# Altium schematic symbol library Prosthetic Hand Schematic Lib.SchLib: 12 symbols
Pins are listed as number, name and electrical type; pins without a type are passive.

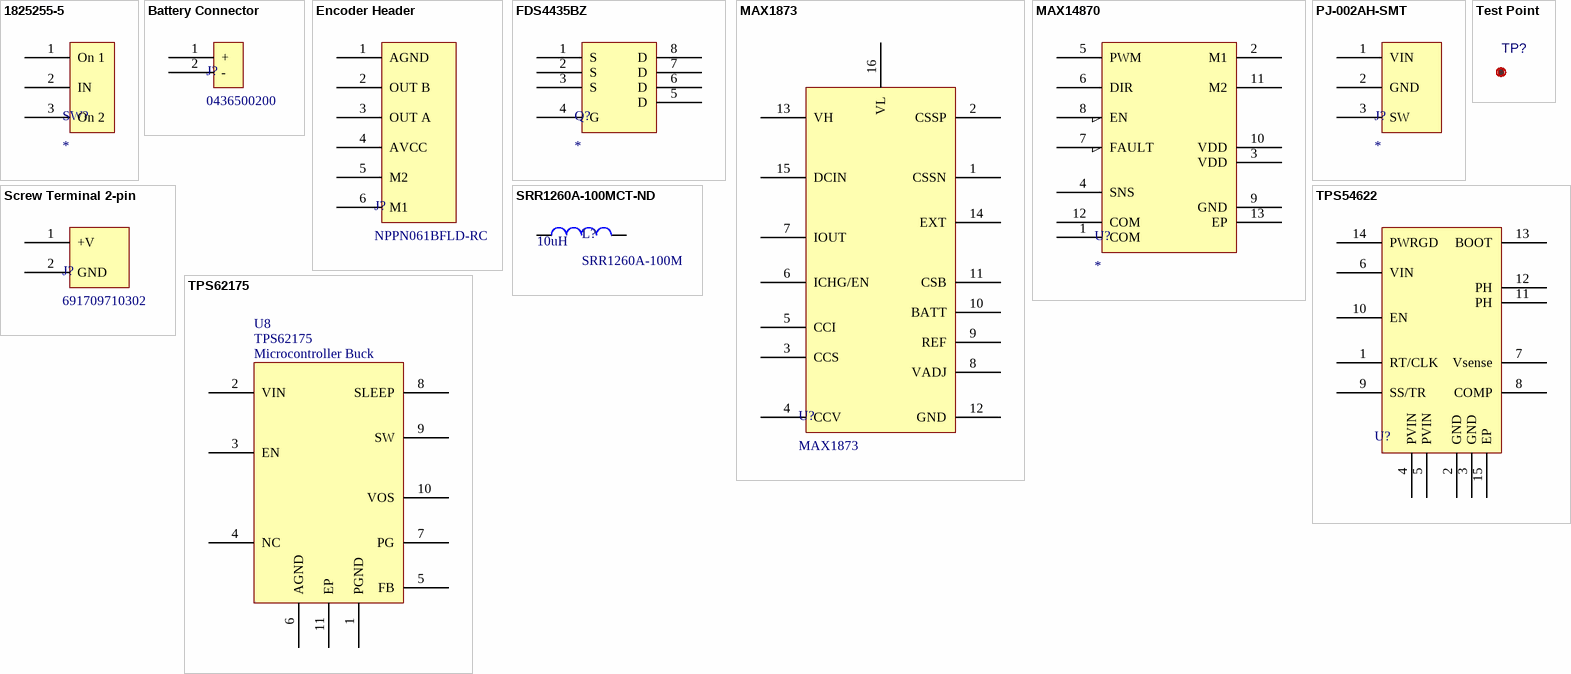
[diagram p0: symbols 1825255-5 to TPS62175]

## 1825255-5
designator SW?
On/Off/On slider switch; MFG_NAME01: TE Connectivity; MFG_PN01: 1825255-5; DIGI_PN01: 450-1569-ND
footprint On/Off/On Slider Switch (TE Connectivity 1825255-5)
pins: 1 On 1, 2 IN, 3 On 2

## Battery Connector
designator J?, comment 0436500200
Battery Connector; MFG_PN01: 43650-0200; MFG_NAME01: Molex; DIGI_PN01: WM1860-ND
footprint 43650-0200 (Molex 43650-0200 for Battery Connector)
pins: 1 +, 2 -

## Encoder Header
designator J?, comment NPPN061BFLD-RC
6-Pin 0; MFG_NAME01: Sullins Connector Solutions; DIGI_PN01: S5902-06-ND; MFG_PN01: NPPN061BFLD-RC
pins: 1 AGND, 2 OUT B, 3 OUT A, 4 AVCC, 5 M2, 6 M1

## FDS4435BZ
designator Q?
PMOS for charge controller; MFG_PN01: FDS4435BZ; MFG_NAME01: Fairchild Semiconductor; DIGI_PN01: FDS4435BZCT-ND
footprint SOIC-8 (SOIC, 8-Leads, Body 4.90x3.90mm, Pitch 1.27mm, IPC Medium Density)
pins: 1 S, 2 S, 3 S, 4 G, 5 D, 6 D, 7 D, 8 D

## MAX1873
designator U?
LiIon Battery Charger; MFG_PN01: MAX1873REEE+; MFG_NAME01: Maxim Integrated; DIGI_PN01: MAX1873REEE+-ND
footprint QSOP-16 (For MAX1873)
pins: 1 CSSN, 2 CSSP, 3 CCS, 4 CCV, 5 CCI, 6 ICHG/EN, 7 IOUT, 8 VADJ, 9 REF, 10 BATT, 11 CSB, 12 GND, 13 VH, 14 EXT, 15 DCIN, 16 VL

## MAX14870
designator U?
Maxim MAX14870 Motor Driver IC; MFG_NAME01: Maxim Integrated; MFG_PN01: MAX14870ETC+T; DIGI_PN01: MAX14870ETC+CT-ND
footprint 12L TDFN 3x3 (3x3mm Dual Flat No Lead with EP)
pins: 1 COM, 2 M1, 3 VDD, 4 SNS, 5 PWM, 6 DIR, 7 FAULT, 8 EN, 9 GND, 10 VDD, 11 M2, 12 COM, 13 EP

## PJ-002AH-SMT
designator J?
DC Barrel Power Jack; MFG_PN01: PJ-002AH-SMT-TR; DIGI_PN01: CP-002AHPJCT-ND; MFG_NAME01: CUI Inc.
footprint PJ-002AH-SMT (Conn power jack SMT 2.1mm x 5.5mm)
pins: 1 VIN, 2 GND, 3 SW

## Screw Terminal 2-pin
designator J?, comment 691709710302
Screw Terminal 2-pin; MFG_NAME01: Wurth Electronics Inc; DIGI_PN01: 1297-1108-1-ND; MFG_PN01: 691709710302
footprint 2-Pin Screw Terminal (Wurth 691709710302)
pins: 1 +V, 2 GND

## SRR1260A-100MCT-ND
designator L?, comment SRR1260A-100M  value 10uH
SRR1260A-100MCT-ND; Current Rating: 5.5A; MFG_NAME01: Bourns; MFG_PN01: SRR1260A-100M; DIGI_PN01: SRR1260A-100MCT-ND
simulation model INDUCTOR (Inductor)
signal-integrity model Inductor
footprint SRR1260 Ind (Precision Wire Wound Inductor, 2-Leads, Body 12.50x12.50mm, IPC Medium Density)
pins: 1, 2

## Test Point
designator TP?  (value not drawn)
TEST POINT PAD .035 SMT; MFG_PN01: TEST POINT PAD .035 SMT; MFG_NAME01: TEST POINT PAD .035 SMT; DNP: DNP
footprint Testpoint_70 (10 mil testpoint)
pins: 1 M80

## TPS54622
designator U?  (value not drawn)
Motor Buck Converter; MFG_PN01: TPS54622RHLR; MFG_NAME01: Texas Instruments; DIGI_PN01: 296-29204-1-ND
footprint S-PVQFN-N14
pins: 1 RT/CLK, 2 GND, 3 GND, 4 PVIN, 5 PVIN, 6 VIN, 7 Vsense, 8 COMP, 9 SS/TR, 10 EN, 11 PH, 12 PH, 13 BOOT, 14 PWRGD, 15 EP

## TPS62175
designator U8  Desc: Microcontroller Buck
IC REG BUCK BST 5V 0.8A 10WSON; MFG_NAME01: Texas Instruments; MFG_PN01: TPS62175DQCR; DIGI_PN01: 296-39451-1-ND; Case-EIA: 10-WFDFN
footprint R-PWSON-N10
pins: 1 PGND, 2 VIN, 3 EN, 4 NC, 5 FB, 6 AGND, 7 PG, 8 SLEEP, 9 SW, 10 VOS, 11 EP